# Altium schematic symbol library myintlib.SchLib: 35 symbols
Pins are listed as number, name and electrical type; pins without a type are passive.

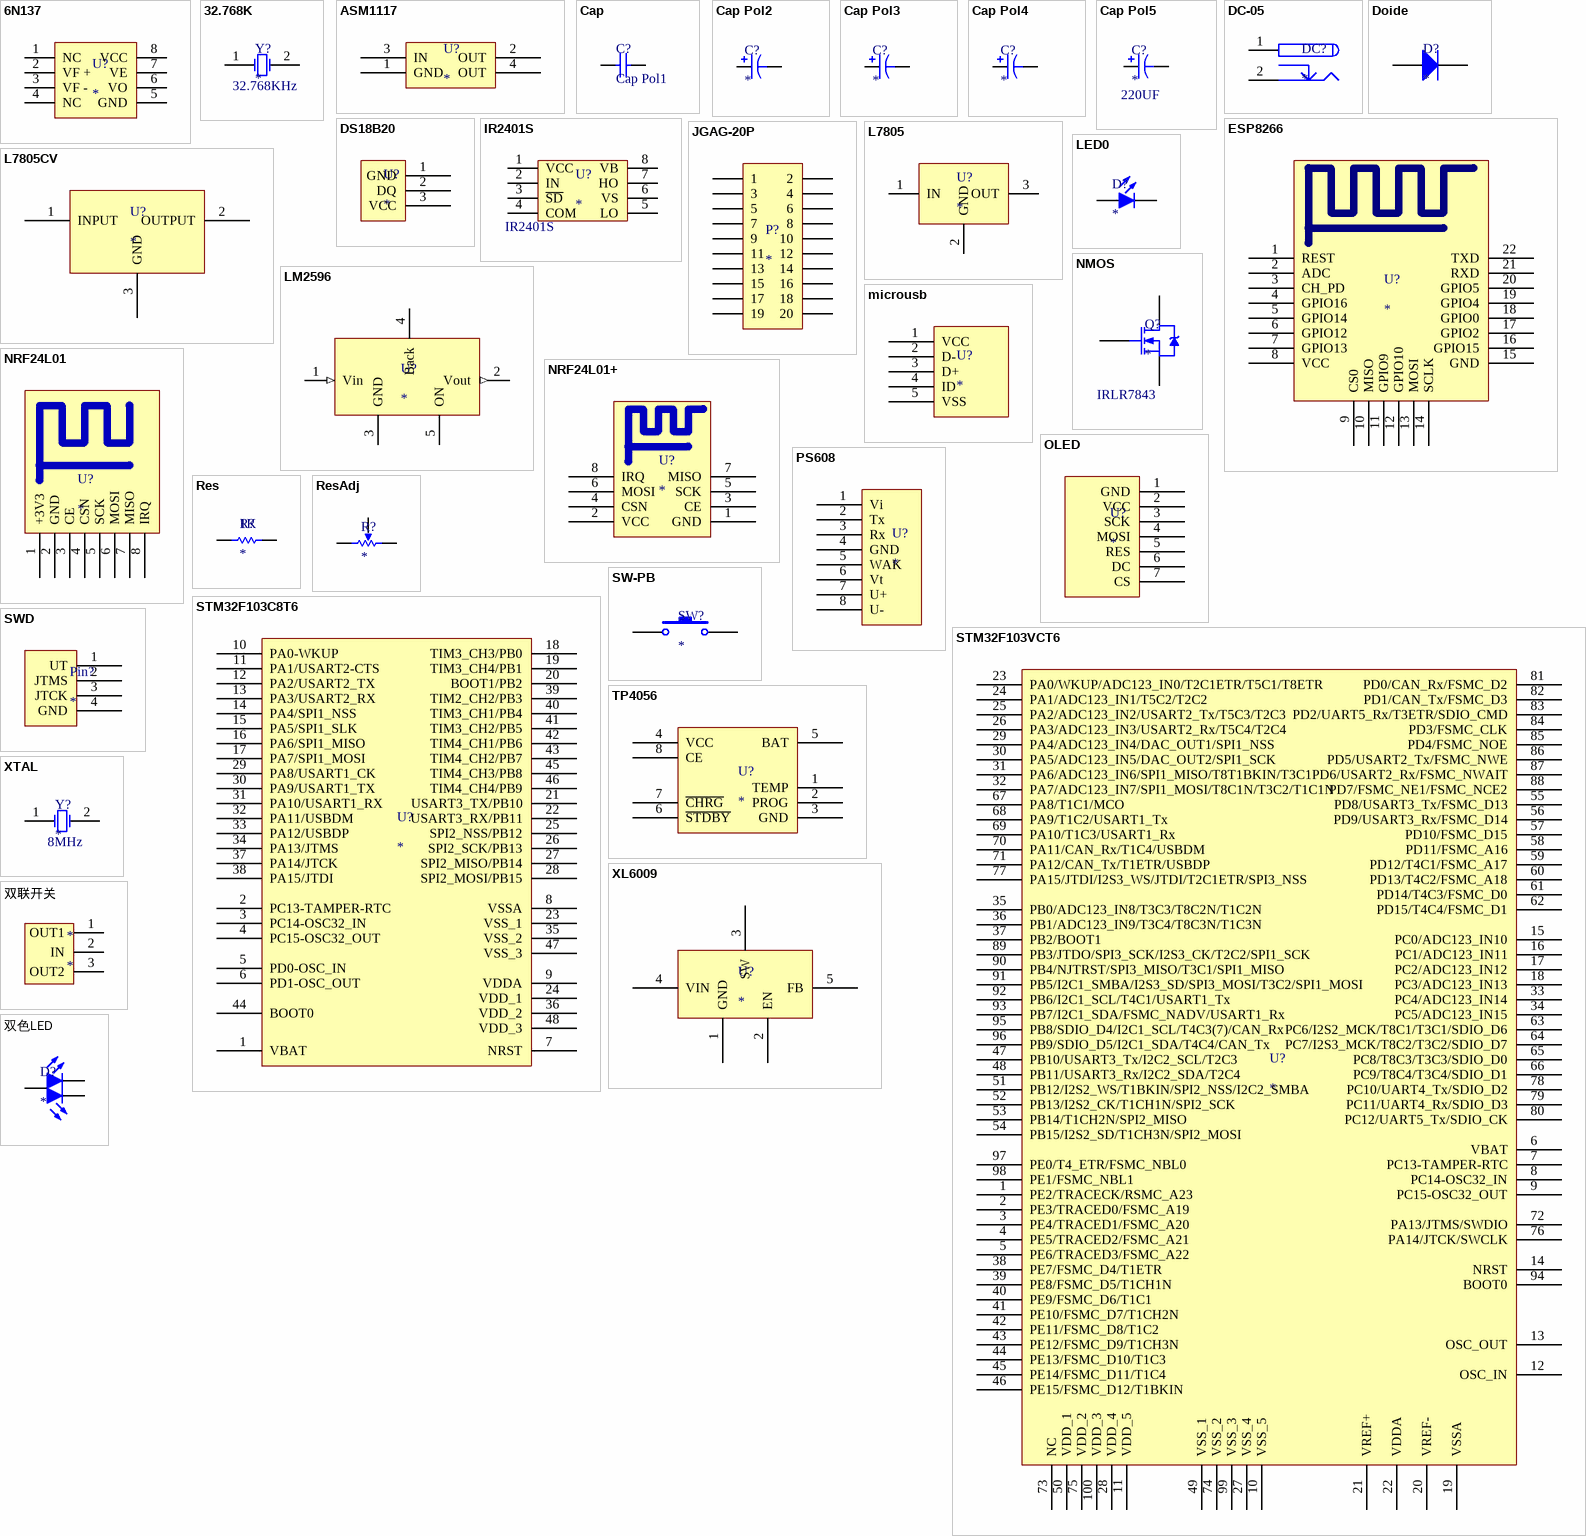
[diagram p0: symbols 6N137 to 双色LED]

## 6N137
designator U?
光耦隔离
footprint SOP8
pins: 1 NC, 2 VF +, 3 VF -, 4 NC, 5 GND, 6 VO, 7 VE, 8 VCC

## 32.768K
designator Y?  value 32.768KHz
晶体振荡器
footprint 308晶振 (32.768KHz)
pins: 1 OSC1, 2 OSC2

## ASM1117
designator U?
线性稳压芯片
footprint SOT-223
pins: 1 GND, 2 OUT, 3 IN, 4 OUT

## Cap
designator C?, comment Cap Pol1
0805贴片电容
footprint Cap0805 (贴片电容)
pins: 1, 2

## Cap Pol2
designator C?
22UF钽电容
footprint 3528-22UF (3.57mm*3.0mm*1.95mm)
pins: 1, 2

## Cap Pol3
designator C?
10UF钽电容
footprint 3828-10uf (3.5mm*2.68mm*2.03)
pins: 1, 2

## Cap Pol4
designator C?
100UF电解电容
footprint SMD4*4.5 (10UF/16V)
pins: 1, 2

## Cap Pol5
designator C?  Vaule: 220UF
220UF电解电容
footprint SMD8*10.5 (220UF/35V)
pins: 1, 2

## DC-05
designator DC?
DC电源端子
footprint DC-05 (电源端子)
pins: 1 (power), 2 (power)

## Doide
designator D?
肖特基二极管
footprint DO-214AA (肖特基二极管)
pins: 1 A, 2 K

## DS18B20
designator U?
温度传感器
footprint TO-92
pins: 1 GND, 2 DQ, 3 VCC

## ESP8266
designator U?
串口wifi模块
footprint ESP8266
pins: 1 REST "接3.3V", 2 ADC "接3.3V", 3 CH_PD "接3.3V", 4 GPIO16 "接3.3V", 5 GPIO14 "接3.3V", 6 GPIO12 "接3.3V", 7 GPIO13 "接3.3V", 8 VCC "接3.3V", 9 CS0 "接3.3V", 10 MISO "接3.3V", 11 GPIO9 "接3.3V", 12 GPIO10 "接3.3V", 13 MOSI "接3.3V", 14 SCLK "接3.3V", 15 GND "接3.3V", 16 GPIO15 "接3.3V", 17 GPIO2 "接3.3V", 18 GPIO0 "接3.3V", 19 GPIO4 "接3.3V", 20 GPIO5 "接3.3V", 21 RXD "接3.3V", 22 TXD "接3.3V"

## IR2401S
designator U?  Vaule: IR2401S
半桥驱动器
footprint SOP8
pins: 1 VCC, 2 IN, 3 ~{SD}, 4 COM, 5 LO, 6 VS, 7 HO, 8 VB

## JGAG-20P
designator P?
JTAG下载接口
footprint JTAG-20 (JTAG下载口)
pins: 1, 2, 3, 4, 5, 6, 7, 8, 9, 10, 11, 12, 13, 14, 15, 16, 17, 18, 19, 20

## L7805
designator U?
5V线性稳压芯片
footprint TO-220-3
pins: 1 IN, 2 GND, 3 OUT

## L7805CV
designator U?
线性稳压电源
footprint D2PAK (TO-263-3)
pins: 1 INPUT, 2 OUTPUT, 3 GND

## LED0
designator D?
0805贴片LED灯
footprint LED-0805
pins: 1 A, 2 K

## LM2596
designator U?
开关稳压电源
footprint TO-263-5
pins: 1 Vin (in), 2 Vout (out), 3 GND, 4 Back, 5 ON

## microusb
designator U?
footprint microusb
pins: 1 VCC, 2 D- , 3 D+, 4 ID, 5 VSS

## NMOS
designator Q?  Vaule: IRLR7843
N沟MOS管
footprint DPAK/TO-252AA (N沟MOS管)
pins: 1 G, 2 D, 3 S

## NRF24L01
designator U?
2.4G无线通信模块
footprint NRF24L01 (贴片式)
pins: 1 +3V3, 2 GND, 3 CE, 4 CSN, 5 SCK, 6 MOSI, 7 MISO, 8 IRQ

## NRF24L01+
designator U?
直插式NRF
footprint DIP8NRF
pins: 1 GND, 2 VCC, 3 CE, 4 CSN, 5 SCK, 6 MOSI, 7 MISO, 8 IRQ

## OLED
designator U?
footprint OLED
pins: 1 GND, 2 VCC, 3 SCK, 4 MOSI, 5 RES, 6 DC, 7 CS

## PS608
designator U?
指纹模块
pins: 1 Vi, 2 Tx, 3 Rx, 4 GND, 5 WAK, 6 Vt, 7 U+, 8 U-

## Res
designator R?  Vaule: 1K
0805贴片电阻
footprint 0805
pins: 1, 2

## ResAdj
designator R?
3362电阻
footprint 3296W
pins: 1, 2, 3

## STM32F103C8T6
designator U?
Cortex-M3内核单片机
footprint LQFP-48
pins: 1 VBAT, 2 PC13-TAMPER-RTC, 3 PC14-OSC32_IN, 4 PC15-OSC32_OUT, 5 PD0-OSC_IN, 6 PD1-OSC_OUT, 7 NRST, 8 VSSA, 9 VDDA, 10 PA0-WKUP, 11 PA1/USART2-CTS, 12 PA2/USART2_TX, 13 PA3/USART2_RX, 14 PA4/SPI1_NSS, 15 PA5/SPI1_SLK, 16 PA6/SPI1_MISO, 17 PA7/SPI1_MOSI, 18 TIM3_CH3/PB0, 19 TIM3_CH4/PB1, 20 BOOT1/PB2, 21 USART3_TX/PB10, 22 USART3_RX/PB11, 23 VSS_1, 24 VDD_1, 25 SPI2_NSS/PB12, 26 SPI2_SCK/PB13, 27 SPI2_MISO/PB14, 28 SPI2_MOSI/PB15, 29 PA8/USART1_CK, 30 PA9/USART1_TX, 31 PA10/USART1_RX, 32 PA11/USBDM, 33 PA12/USBDP, 34 PA13/JTMS, 35 VSS_2, 36 VDD_2, 37 PA14/JTCK, 38 PA15/JTDI, 39 TIM2_CH2/PB3, 40 TIM3_CH1/PB4, 41 TIM3_CH2/PB5, 42 TIM4_CH1/PB6, 43 TIM4_CH2/PB7, 44 BOOT0, 45 TIM4_CH3/PB8, 46 TIM4_CH4/PB9, 47 VSS_3, 48 VDD_3

## STM32F103VCT6
designator U?
Cotex-M3单片机100脚
footprint LQPF-100
pins: 1 PE2/TRACECK/RSMC_A23, 2 PE3/TRACED0/FSMC_A19, 3 PE4/TRACED1/FSMC_A20, 4 PE5/TRACED2/FSMC_A21, 5 PE6/TRACED3/FSMC_A22, 6 VBAT, 7 PC13-TAMPER-RTC, 8 PC14-OSC32_IN, 9 PC15-OSC32_OUT, 10 VSS_5, 11 VDD_5, 12 OSC_IN, 13 OSC_OUT, 14 NRST, 15 PC0/ADC123_IN10, 16 PC1/ADC123_IN11, 17 PC2/ADC123_IN12, 18 PC3/ADC123_IN13, 19 VSSA, 20 VREF-, 21 VREF+, 22 VDDA, 23 PA0/WKUP/ADC123_IN0/T2C1ETR/T5C1/T8ETR, 24 PA1/ADC123_IN1/T5C2/T2C2, 25 PA2/ADC123_IN2/USART2_Tx/T5C3/T2C3, 26 PA3/ADC123_IN3/USART2_Rx/T5C4/T2C4, 27 VSS_4, 28 VDD_4, 29 PA4/ADC123_IN4/DAC_OUT1/SPI1_NSS, 30 PA5/ADC123_IN5/DAC_OUT2/SPI1_SCK, 31 PA6/ADC123_IN6/SPI1_MISO/T8T1BKIN/T3C1, 32 PA7/ADC123_IN7/SPI1_MOSI/T8C1N/T3C2/T1C1N, 33 PC4/ADC123_IN14, 34 PC5/ADC123_IN15, 35 PB0/ADC123_IN8/T3C3/T8C2N/T1C2N, 36 PB1/ADC123_IN9/T3C4/T8C3N/T1C3N, 37 PB2/BOOT1, 38 PE7/FSMC_D4/T1ETR, 39 PE8/FSMC_D5/T1CH1N, 40 PE9/FSMC_D6/T1C1, 41 PE10/FSMC_D7/T1CH2N, 42 PE11/FSMC_D8/T1C2, 43 PE12/FSMC_D9/T1CH3N, 44 PE13/FSMC_D10/T1C3, 45 PE14/FSMC_D11/T1C4, 46 PE15/FSMC_D12/T1BKIN, 47 PB10/USART3_Tx/I2C2_SCL/T2C3, 48 PB11/USART3_Rx/I2C2_SDA/T2C4, 49 VSS_1, 50 VDD_1, 51 PB12/I2S2_WS/T1BKIN/SPI2_NSS/I2C2_SMBA, 52 PB13/I2S2_CK/T1CH1N/SPI2_SCK, 53 PB14/T1CH2N/SPI2_MISO, 54 PB15/I2S2_SD/T1CH3N/SPI2_MOSI, 55 PD8/USART3_Tx/FSMC_D13, 56 PD9/USART3_Rx/FSMC_D14, 57 PD10/FSMC_D15, 58 PD11/FSMC_A16, 59 PD12/T4C1/FSMC_A17, 60 PD13/T4C2/FSMC_A18, 61 PD14/T4C3/FSMC_D0, 62 PD15/T4C4/FSMC_D1, 63 PC6/I2S2_MCK/T8C1/T3C1/SDIO_D6, 64 PC7/I2S3_MCK/T8C2/T3C2/SDIO_D7, 65 PC8/T8C3/T3C3/SDIO_D0, 66 PC9/T8C4/T3C4/SDIO_D1, 67 PA8/T1C1/MCO, 68 PA9/T1C2/USART1_Tx, 69 PA10/T1C3/USART1_Rx, 70 PA11/CAN_Rx/T1C4/USBDM, 71 PA12/CAN_Tx/T1ETR/USBDP, 72 PA13/JTMS/SWDIO, 73 NC, 74 VSS_2, 75 VDD_2, 76 PA14/JTCK/SWCLK, 77 PA15/JTDI/I2S3_WS/JTDI/T2C1ETR/SPI3_NSS, 78 PC10/UART4_Tx/SDIO_D2, 79 PC11/UART4_Rx/SDIO_D3, 80 PC12/UART5_Tx/SDIO_CK, 81 PD0/CAN_Rx/FSMC_D2, 82 PD1/CAN_Tx/FSMC_D3, 83 PD2/UART5_Rx/T3ETR/SDIO_CMD, 84 PD3/FSMC_CLK, 85 PD4/FSMC_NOE, 86 PD5/USART2_Tx/FSMC_NWE, 87 PD6/USART2_Rx/FSMC_NWAIT, 88 PD7/FSMC_NE1/FSMC_NCE2, 89 PB3/JTDO/SPI3_SCK/I2S3_CK/T2C2/SPI1_SCK, 90 PB4/NJTRST/SPI3_MISO/T3C1/SPI1_MISO, 91 PB5/I2C1_SMBA/I2S3_SD/SPI3_MOSI/T3C2/SPI1_MOSI, 92 PB6/I2C1_SCL/T4C1/USART1_Tx, 93 PB7/I2C1_SDA/FSMC_NADV/USART1_Rx, 94 BOOT0, 95 PB8/SDIO_D4/I2C1_SCL/T4C3(7)/CAN_Rx, 96 PB9/SDIO_D5/I2C1_SDA/T4C4/CAN_Tx, 97 PE0/T4_ETR/FSMC_NBL0, 98 PE1/FSMC_NBL1, 99 VSS_3, 100 VDD_3

## SW-PB
designator SW?
贴片按键
footprint SW-PB (贴片按键)
pins: 1, 2

## SWD
designator Pin?
SWD下载端口
footprint XH2.54-4P (SWD下载口)
pins: 1 UT (power) "接3.3V", 2 JTMS (power), 3 JTCK (power), 4 GND (power) "接地"

## TP4056
designator U?
锂电池充电芯片
footprint SOP8
pins: 1 TEMP, 2 PROG, 3 GND, 4 VCC, 5 BAT, 6 ~{STDBY}, 7 ~{CHRG}, 8 CE

## XL6009
designator U?
升压芯片
footprint TO-263-5
pins: 1 GND, 2 EN, 3 SW, 4 VIN, 5 FB

## XTAL
designator Y?
无源晶振
footprint X-HC49U (直插无源晶振)
pins: 1 OSC1, 2 OSC2
text: 8MHz

## 双联开关
designator *
footprint 双联钮子开关
pins: 1 OUT1, 2 IN, 3 OUT2

## 双色LED
designator D?
直插双色LED灯
footprint 双色LED (共阳)
pins: 1 A, 2 K, 3 A